# Altium footprint library Pads.PcbLib: 71 footprints (part 3 of 5)
Each footprint in its own frame and in the unit in brackets; x right, y up, seen from the top. Pads: shape width x height; smd on the part's side, far side on the other; paste and mask are expansions set on the pad; w line width, h text height; cw(c..) or ccw(c..) is an arc to the next point about the centre after c.
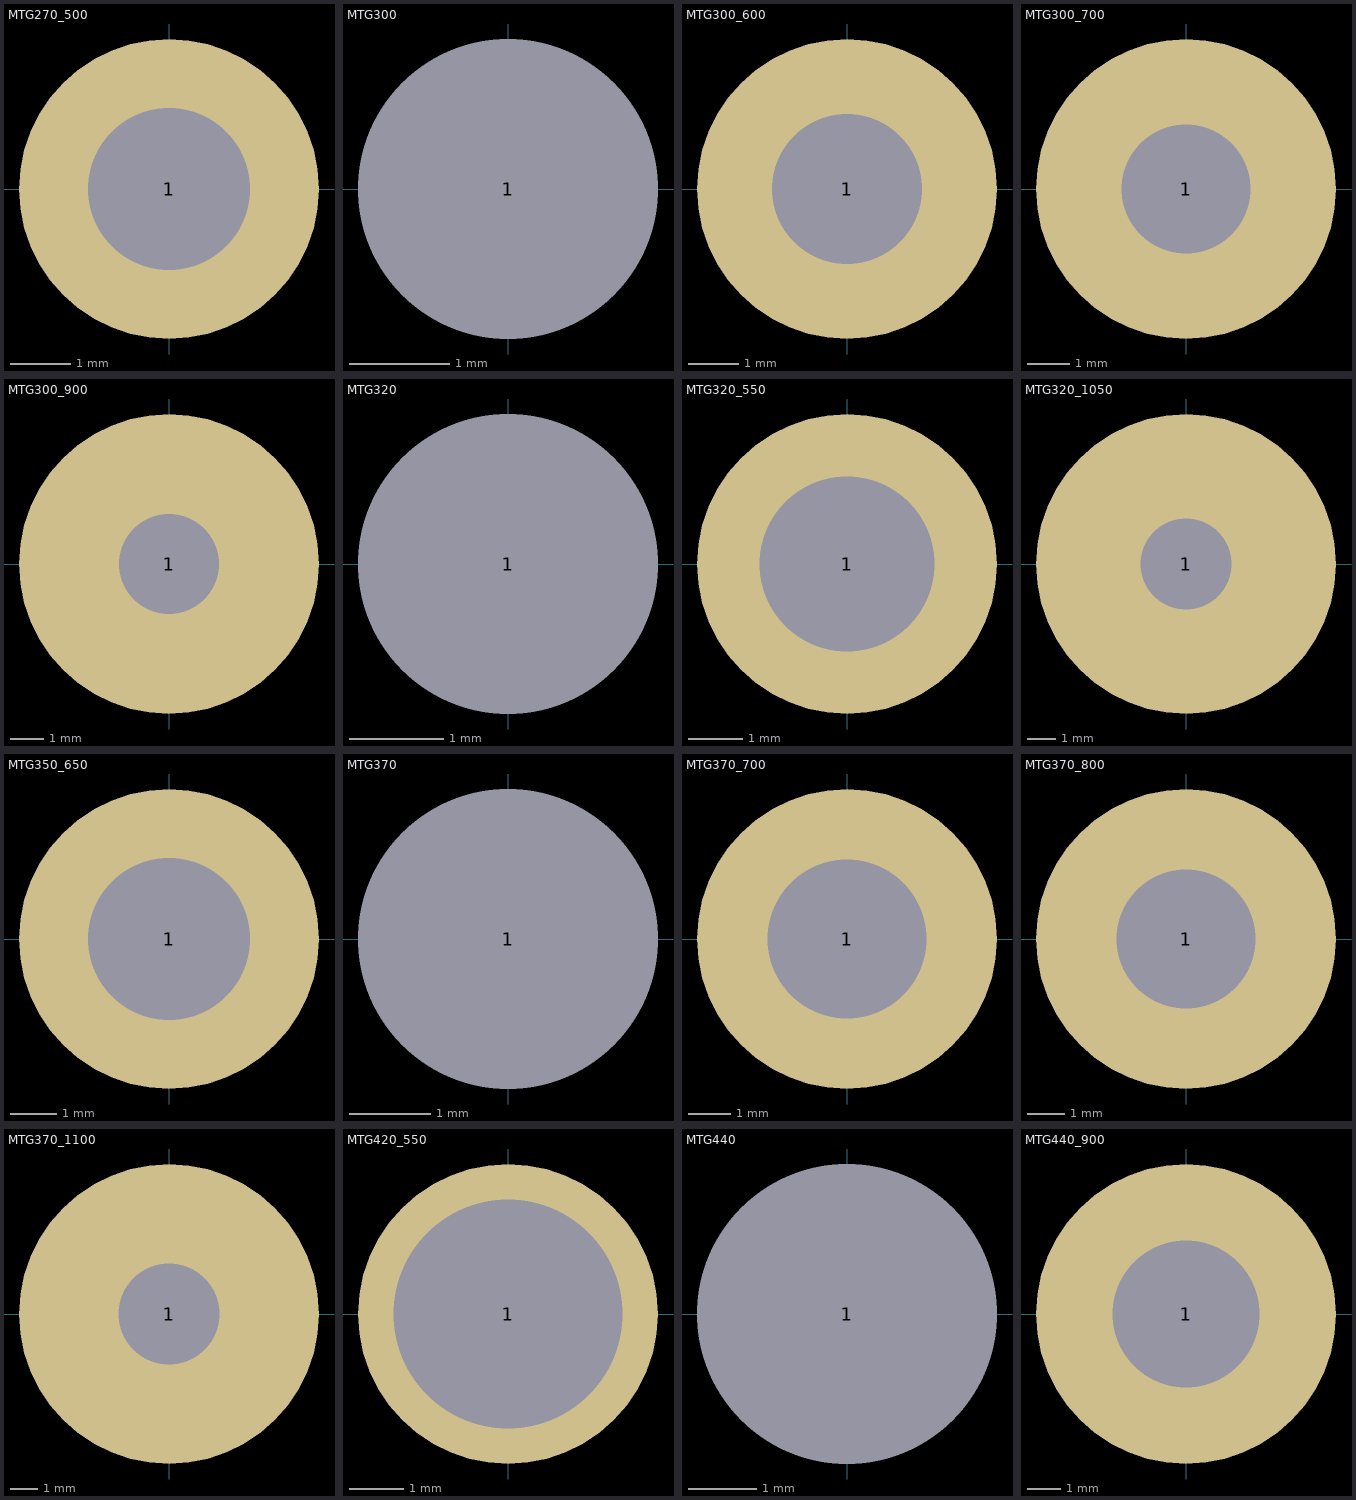
[diagram p2: the footprints below, top view; thin cyan lines are the x and y axes]

## MTG270_500 [mm] "Plated Through Hole: Hole Dia.=2.7mm Pad Dia.=5.0mm"
pads (1):
  round 5 hole 2.7: 1(0,0)

## MTG300 [mm] "Non Plated Through Hole: Hole Dia.=3.0mm"
pads (1):
  round 0.5 hole 3 unplated mask+1.25: 1(0,0)

## MTG300_600 [mm] "Plated Through Hole: Hole Dia.=3.0mm Pad Dia.=6.0mm"
pads (1):
  round 6 hole 3: 1(0,0)

## MTG300_700 [mm] "Plated Through Hole: Hole Dia.=3.0mm Pad Dia.=7.0mm"
pads (1):
  round 7 hole 3: 1(0,0)

## MTG300_900 [mm] "Plated Through Hole: Hole Dia.=3.0mm Pad Dia.=9.0mm"
pads (1):
  round 9 hole 3: 1(0,0)

## MTG320 [mm] "Non Plated Through Hole: Hole Dia.=3.2mm"
pads (1):
  round 0.5 hole 3.2 unplated mask+1.35: 1(0,0)

## MTG320_550 [mm] "Plated Through Hole: Hole Dia.=3.2mm Pad Dia.=5.5mm"
pads (1):
  round 5.5 hole 3.2: 1(0,0)

## MTG320_1050 [mm] "Plated Through Hole: Hole Dia.=3.2mm Pad Dia.=10.5mm"
pads (1):
  round 10.5 hole 3.2: 1(0,0)

## MTG350_650 [mm] "Plated Through Hole: Hole Dia.=3.5mm Pad Dia.=6.5mm"
pads (1):
  round 6.5 hole 3.5: 1(0,0)

## MTG370 [mm] "Non Plated Through Hole: Hole Dia.=3.7mm"
pads (1):
  round 0.5 hole 3.7 unplated mask+1.6: 1(0,0)

## MTG370_700 [mm] "Plated Through Hole: Hole Dia.=3.7mm Pad Dia.=7.0mm"
pads (1):
  round 7 hole 3.7: 1(0,0)

## MTG370_800 [mm] "Plated Through Hole: Hole Dia.=3.7mm Pad Dia.=8.0mm"
pads (1):
  round 8 hole 3.7: 1(0,0)

## MTG370_1100 [mm] "Plated Through Hole: Hole Dia.=3.7mm Pad Dia.=11.0mm"
pads (1):
  round 11 hole 3.7: 1(0,0)

## MTG420_550 [mm] "Plated Through Hole: Hole Dia.=4.2mm Pad Dia.=5.5mm"
pads (1):
  round 5.5 hole 4.2: 1(0,0)

## MTG440 [mm] "Non Plated Through Hole: Hole Dia.=4.4mm"
pads (1):
  round 0.5 hole 4.4 unplated mask+1.95: 1(0,0)

## MTG440_900 [mm] "Plated Through Hole: Hole Dia.=4.4mm Pad Dia.=9.0mm"
pads (1):
  round 9 hole 4.4: 1(0,0)